# Altium footprint library WCAP-CSST.PcbLib: 8 footprints
Each footprint in its own frame and in the unit in brackets; x right, y up, seen from the top. Pads: shape width x height; smd on the part's side, far side on the other; paste and mask are expansions set on the pad; w line width, h text height; cw(c..) or ccw(c..) is an arc to the next point about the centre after c.
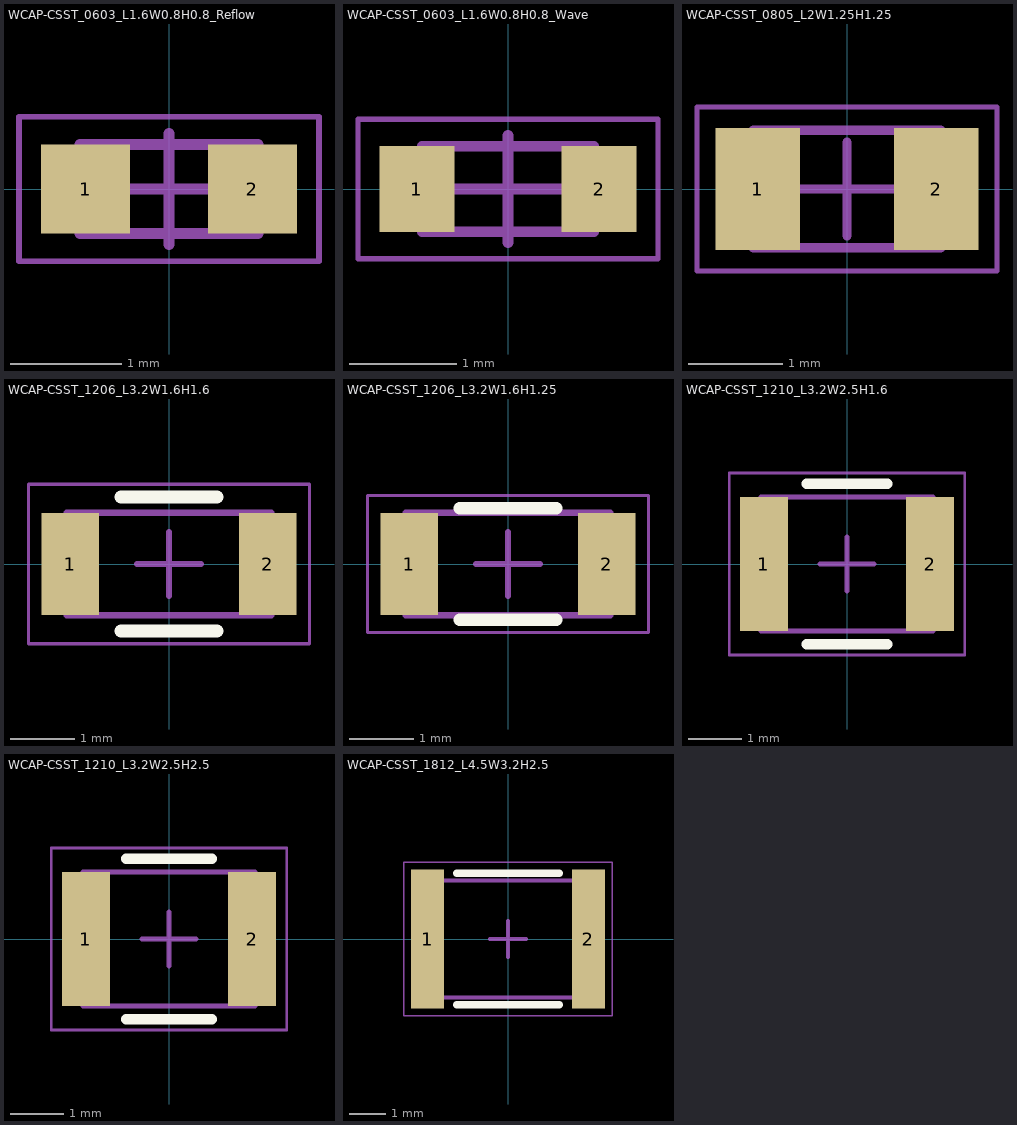
[diagram p0: the footprints below, top view; thin cyan lines are the x and y axes]

## WCAP-CSST_0603_L1.6W0.8H0.8_Reflow [mm] "Soft Termination MLCC, body 1.60x0.80mm"
height 0.8
pads (2):
  rect 0.8x0.8 smd: 1(-0.75,0) 2(0.75,0)
Top Assembly:
  lines w0.1: -0.8,-0.4 -0.8,0.4 0.8,0.4 0.8,-0.4 -0.8,-0.4
Top Designator:
  text ".Designator" at -3.647,-0.357 h1
Top Courtyard:
  lines w0.05: -1.35,-0.65 -1.35,0.65 1.35,0.65 1.35,-0.65 -1.35,-0.65
Top Component Center:
  lines w0.1: -0.5,0 0.5,0 ; 0,-0.5 0,0.5
3D body "CAPC1608X08N.step": height 0.8, standoff 0, extent -0.8,-0.4 0.8,0.4

## WCAP-CSST_0603_L1.6W0.8H0.8_Wave [mm] "Soft Termination MLCC, body 1.60x0.80mm"
height 0.8
pads (2):
  rect 0.7x0.8 smd: 1(-0.85,0) 2(0.85,0)
Top Assembly:
  lines w0.1: -0.8,-0.4 0.8,-0.4 0.8,0.4 -0.8,0.4 -0.8,-0.4
Top Designator:
  text ".Designator" at -3.647,-0.357 h1
Top Courtyard:
  lines w0.05: -1.4,-0.65 -1.4,0.65 1.4,0.65 1.4,-0.65 -1.4,-0.65
Top Component Center:
  lines w0.1: -0.5,0 0.5,0 ; 0,-0.5 0,0.5
3D body "CAPC1608X08N.step": height 0.8, standoff 0, extent -0.8,-0.4 0.8,0.4

## WCAP-CSST_0805_L2W1.25H1.25 [mm] "Soft Termination MLCC, body 2.00x1.25mm"
height 1.25
pads (2):
  rect 0.9x1.3 smd: 1(-0.95,0) 2(0.95,0)
Top Assembly:
  lines w0.1: -1,-0.625 -1,0.625 1,0.625 1,-0.625 -1,-0.625
Top Designator:
  text ".Designator" at -3.647,-0.357 h1
Top Courtyard:
  lines w0.05: -1.6,-0.875 -1.6,0.875 1.6,0.875 1.6,-0.875 -1.6,-0.875
Top Component Center:
  lines w0.1: -0.5,0 0.5,0 ; 0,-0.5 0,0.5
3D body "CAPC2012X12N.step": height 1.25, standoff 0, extent -1,-0.625 1,0.625

## WCAP-CSST_1206_L3.2W1.6H1.6 [mm] "Soft Termination MLCC, body 3.20x1.60mm"
height 1.6
pads (2):
  rect 0.9x1.6 smd: 1(-1.55,0) 2(1.55,0)
Top Overlay:
  lines w0.2: -0.75,-1.05 0.75,-1.05 ; -0.75,1.05 0.75,1.05
Top Assembly:
  lines w0.1: -1.6,-0.8 -1.6,0.8 1.6,0.8 1.6,-0.8 -1.6,-0.8
Top Designator:
  text ".Designator" at -3.647,-0.357 h1
Top Courtyard:
  lines w0.05: -2.2,-1.25 -2.2,1.25 2.2,1.25 2.2,-1.25 -2.2,-1.25
Top Component Center:
  lines w0.1: -0.5,0 0.5,0 ; 0,-0.5 0,0.5
3D body "CAPC3216X16N.step": height 1.6, standoff 0, extent -1.6,-0.8 1.6,0.8

## WCAP-CSST_1206_L3.2W1.6H1.25 [mm] "Soft Termination MLCC, body 3.20x1.60mm"
height 1.25
pads (2):
  rect 0.9x1.6 smd: 1(-1.55,0) 2(1.55,0)
Top Overlay:
  lines w0.2: -0.75,-0.875 0.75,-0.875 ; -0.75,0.875 0.75,0.875
Top Assembly:
  lines w0.1: -1.6,-0.8 1.6,-0.8 1.6,0.8 -1.6,0.8 -1.6,-0.8
Top Designator:
  text ".Designator" at -3.647,-0.357 h1
Top Courtyard:
  lines w0.05: -2.2,-1.075 2.2,-1.075 2.2,1.075 -2.2,1.075 -2.2,-1.075
Top Component Center:
  lines w0.1: -0.5,0 0.5,0 ; 0,-0.5 0,0.5
3D body "CAPC3216X12N.step": height 1.25, standoff 0, extent -1.6,-0.8 1.6,0.8

## WCAP-CSST_1210_L3.2W2.5H1.6 [mm] "Soft Termination MLCC, body 3.20x2.50mm"
height 1.6
pads (2):
  rect 0.9x2.5 smd: 1(-1.55,0) 2(1.55,0)
Top Overlay:
  lines w0.2: -0.75,-1.5 0.75,-1.5 ; -0.75,1.5 0.75,1.5
Top Assembly:
  lines w0.1: -1.6,-1.25 -1.6,1.25 1.6,1.25 1.6,-1.25 -1.6,-1.25
Top Designator:
  text ".Designator" at -3.647,-0.357 h1
Top Courtyard:
  lines w0.05: -2.2,-1.7 -2.2,1.7 2.2,1.7 2.2,-1.7 -2.2,-1.7
Top Component Center:
  lines w0.1: -0.5,0 0.5,0 ; 0,-0.5 0,0.5
3D body "CAPC3225X16N.step": height 1.6, standoff 0, extent -1.6,-1.25 1.6,1.25

## WCAP-CSST_1210_L3.2W2.5H2.5 [mm] "Soft Termination MLCC, body 3.20x2.50mm"
height 2.5
pads (2):
  rect 0.9x2.5 smd: 1(-1.55,0) 2(1.55,0)
Top Overlay:
  lines w0.2: -0.8,-1.5 0.8,-1.5 ; -0.8,1.5 0.8,1.5
Top Assembly:
  lines w0.1: -1.6,-1.25 -1.6,1.25 1.6,1.25 1.6,-1.25 -1.6,-1.25
Top Designator:
  text ".Designator" at -3.647,-0.357 h1
Top Courtyard:
  lines w0.05: -2.2,-1.7 -2.2,1.7 2.2,1.7 2.2,-1.7 -2.2,-1.7
Top Component Center:
  lines w0.1: -0.5,0 0.5,0 ; 0,-0.5 0,0.5
3D body "CAPC3225X25N.step": height 2.5, standoff 0, extent -1.6,-1.25 1.6,1.25

## WCAP-CSST_1812_L4.5W3.2H2.5 [mm] "Soft Termination MLCC, body 4.50 x 3.20mm"
height 2.5
pads (2):
  rect 0.9x3.8 smd: 1(-2.2,0) 2(2.2,0)
Top Overlay:
  lines w0.2: -1.4,-1.8 1.4,-1.8 ; -1.4,1.8 1.4,1.8
Top Assembly:
  lines w0.1: -2.25,-1.6 2.25,-1.6 2.25,1.6 -2.25,1.6 -2.25,-1.6
Top Designator:
  text ".Designator" at -3.647,-0.357 h1
Top Courtyard:
  lines w0.05: -2.85,-2.1 2.85,-2.1 2.85,2.1 -2.85,2.1 -2.85,-2.1
Top Component Center:
  lines w0.1: -0.5,0 0.5,0 ; 0,-0.5 0,0.5
3D body "Chip2PinSM127P600-8N.step": height 2.5, standoff 0, extent -2.25,-1.6 2.25,1.6